# Altium footprint library Connectors.PcbLib: 77 footprints (part 2 of 5)
Each footprint in its own frame and in the unit in brackets; x right, y up, seen from the top. Pads: shape width x height; smd on the part's side, far side on the other; paste and mask are expansions set on the pad; w line width, h text height; cw(c..) or ccw(c..) is an arc to the next point about the centre after c.
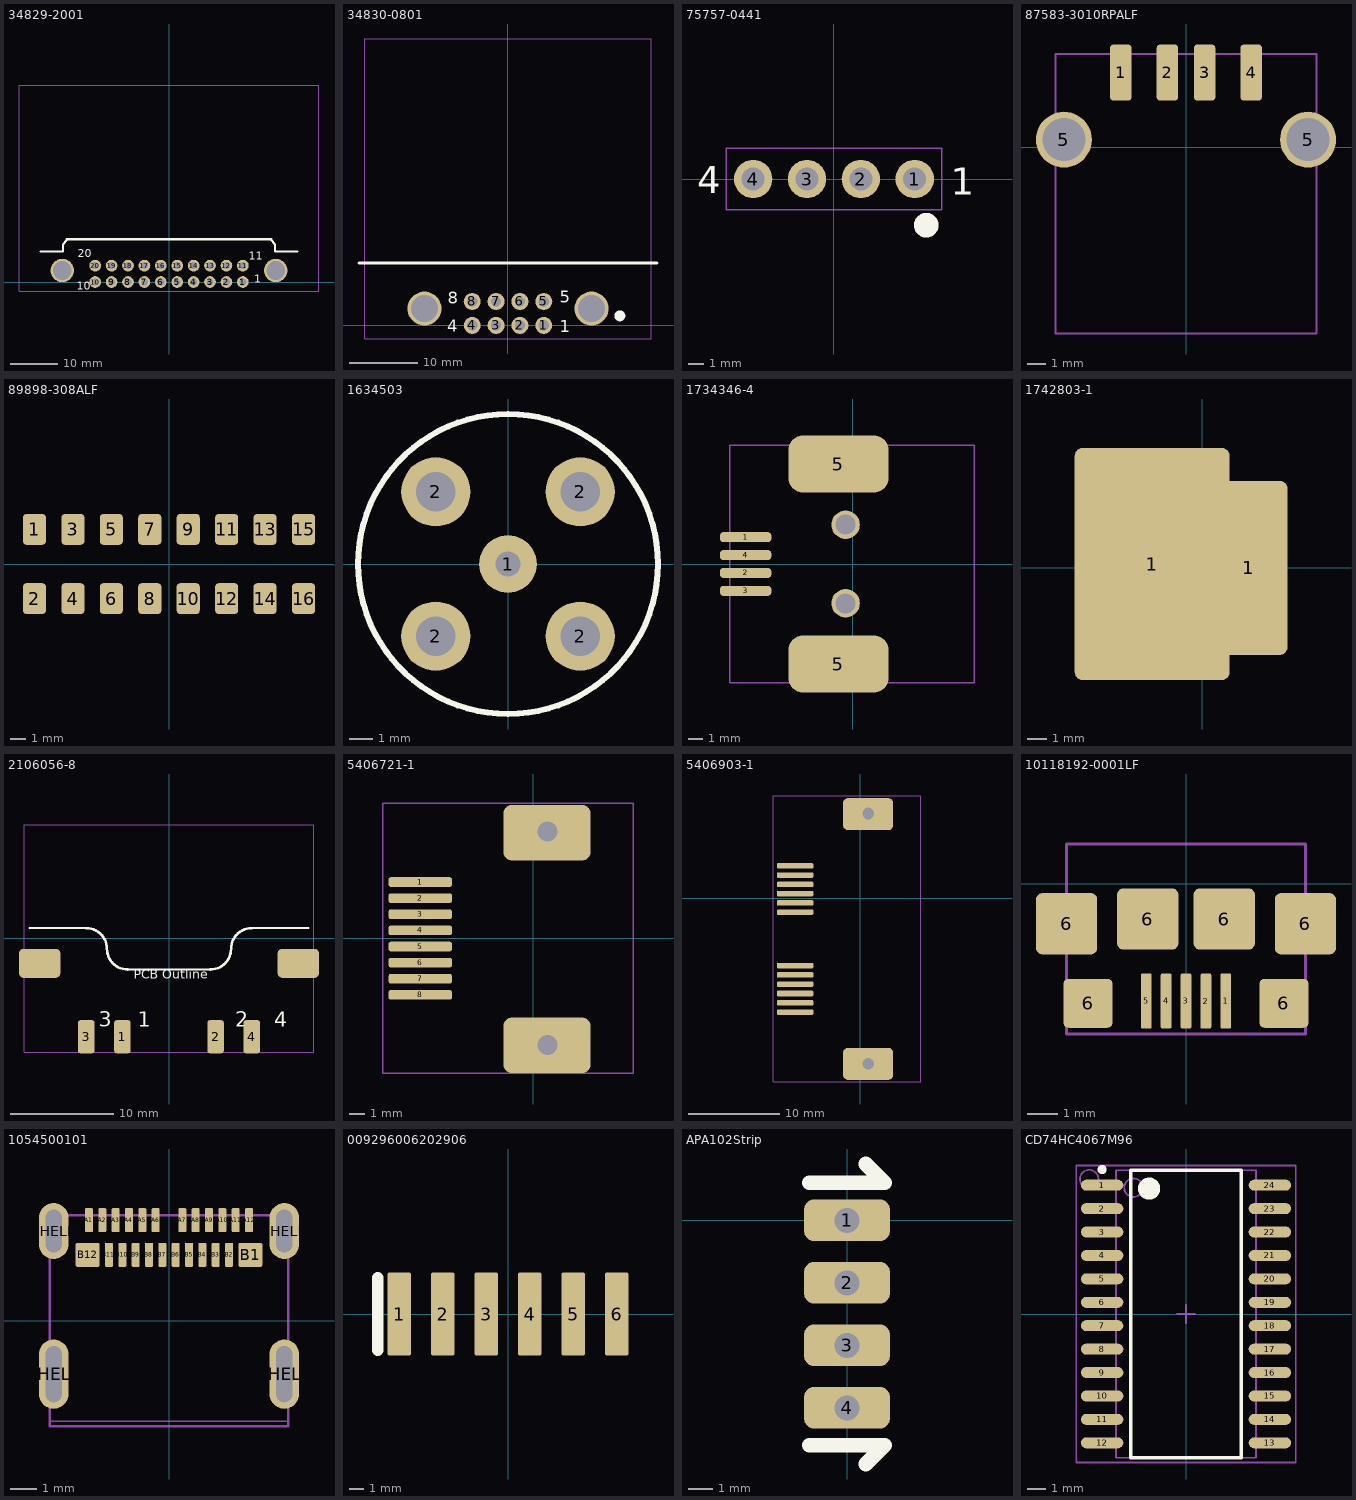
[diagram p1: the footprints below, top view; thin cyan lines are the x and y axes]

## 34829-2001 [mm] "MX150™ 2x10 Dual Row Right Angle Header, Compliant Pin, 20 Circuits, Polarization A, Black"
pads (22):
  round 2.5 hole 1.5 paste-99: 1(15.75,0) 2(12.25,0) 3(8.75,0) 4(5.25,0) 5(1.75,0) 6(-1.75,0) 7(-5.25,0) 8(-8.75,0) 9(-12.25,0) 10(-15.75,0) 11(15.75,3.5) 12(12.25,3.5) 13(8.75,3.5) 14(5.25,3.5) 15(1.75,3.5) 16(-1.75,3.5) 17(-5.25,3.5) 18(-8.75,3.5) 19(-12.25,3.5) 20(-15.75,3.5)
  round 5 hole 4 paste-99: ""(-22.75,2.46) ""(22.75,2.46)
Top Overlay:
  lines w0.5: -27.41,6.51 -22.61,6.51 -22.61,7.97 -21.8,9.14 0,9.14 21.8,9.14 22.61,7.97 22.61,6.51 27.41,6.51
  text "10" at -19.7,-2.3 h3
  text "1" at 18.2,-0.8 h3
  text "11" at 17,4.1 h3
  text "20" at -19.5,4.6 h3
Assembly:
  lines w0.1: -32,-2 -32,42 32,42 32,-2 -32,-2
  text ".Designator" at -6,6 h3
3D body "348292001.stp": height 20.64, standoff -5.85, extent -31.845,-0.6 31.845,41.96

## 34830-0801 [mm] "MX150™ 2x4 Dual Row Right Angle Header, Solder Pin, 8 Circuits, Polarization A, Black"
pads (10):
  round 2.5 hole 1.5 paste-99: 1(5.25,0) 2(1.75,0) 3(-1.75,0) 4(-5.25,0) 5(5.25,3.5) 6(1.75,3.5) 7(-1.75,3.5) 8(-5.25,3.5)
  round 5 hole 4 paste-99: ""(-12.25,2.46) ""(12.25,2.46)
Top Overlay:
  circle w1: c16.4,1.4 r0.3
  lines w0.5: -21.8,9.14 0,9.14 21.8,9.14
  text "4" at -8.9,-1.5 h3
  text "1" at 7.6,-1.6 h3
  text "5" at 7.6,2.7 h3
  text "8" at -8.8,2.6 h3
Assembly:
  lines w0.1: -21,-2 -21,42 21,42 21,-2 -21,-2
  text ".Designator" at -6,6 h3
3D body "348300801.stp": height 20.94, standoff -5.55, extent -21.336,-0.554 21.354,42.006

## 75757-0441 [mm] "MX150 Connector Header Through Hole 4 position 0.138\" (3.50mm)"
pads (4):
  round 2.5 hole 1.5 paste-99: 1(5.25,0) 2(1.75,0) 3(-1.75,0) 4(-5.25,0)
Top Overlay:
  circle w1: c6,-3 r0.3
  text "4" at -8.9,-1.5 h3
  text "1" at 7.6,-1.6 h3
Assembly:
  lines w0.1: -7,-2 -7,2 7,2 7,-2 -7,-2
  text ".Designator" at -2.4,-0.2 h1.1
3D body "757570441.stp": height 15.75, standoff -3, extent -7,-1.855 7,1.855

## 87583-3010RPALF [mm]
pads (6):
  rrect30% 1.15x3 smd paste-0.04 mask+0.092: 1(-3.5,4) 2(-1,4) 3(1,4) 4(3.5,4)
  round 3 hole 2.3: 5(-6.55,0.4) 5(6.55,0.4)
Assembly:
  lines w0.1: -7,-10 7,-10 7,5 -7,5 -7,-10
  text ".Designator" at -2.4,0.8 h1.1
3D body: height 7, standoff 0, extent -6.6,-9.9 6.6,4.5

## 89898-308ALF [mil] "16 Position Receptacle, Bottom or Top Entry Connector Surface Mount"
pads (16):
  rrect30% 60x80 smd paste-1.57 mask+3.62: 1(-350,90) 2(-350,-90) 3(-250,90) 4(-250,-90) 5(-150,90) 6(-150,-90) 7(-50,90) 8(-50,-90) 9(50,90) 10(50,-90) 11(150,90) 12(150,-90) 13(250,90) 14(250,-90) 15(350,90) 16(350,-90)
3D body "89898-308a_asm.stp": height 320.96, standoff -1.87, extent -398.46,-118.73 398.39,118.73

## 1634503 [mm] "BNC Straight -- low profile PCB Socket. PIN-IN-PASTE REFLOW configuration."
pads (5):
  round 2.5 hole 1.1 paste-99: 1(0,0)
  round 3 hole 1.7 paste-99: 2(-3.13,-3.13) 2(-3.13,3.13) 2(3.13,-3.13) 2(3.13,3.13)
Top Overlay:
  circle w0.254: c0,0 r6.5
Top Paste:
  circle w1.8: c-3.13,3.13 r0.5
  circle w1.8: c-3.13,-3.13 r0.5
  circle w1.8: c3.13,-3.13 r0.5
  circle w1.8: c3.13,3.13 r0.5
  circle w1.4: c0,0 r0.5
3D body "c-5-1634503-1-d-3d.stp": height 13.75, standoff -4.85, extent -5.5,-5.51 5.5,5.51

## 1734346-4 [mm]
pads (8):
  rrect70% 3.6x0.7 smd paste-0.04 mask+0.092: 1(-7.5,1.875) 2(-7.5,-0.625) 3(-7.5,-1.875) 4(-7.5,0.625)
  rrect50% 7x4 smd paste-0.3: 5(-1,-7) 5(-1,7)
  round 2 hole 1.4 paste-99: ""(-0.5,-2.75) ""(-0.5,2.75)
Assembly:
  lines w0.1: -8.6,-8.3 8.5,-8.3 8.5,8.3 -8.6,8.3 -8.6,-8.3
  text ".Designator" at -3.5,0 h1.1
3D body "c-1734346-4-c-3d.stp": height 11.31, standoff -1.11, extent -8.6,-8.25 8.5,8.25

## 1742803-1 [mm] "QC, laying flat"
pads (2):
  rrect10% 8x12 smd paste-0.5: 1(-2.6,0.2)
  rrect20% 4x9 smd paste-0.5: 1(2.4,0)
3D body "c-1742803-1-c-3d.stp": height 0.8, standoff 0, extent -6.276,-4.445 14.4,4.445

## 2106056-8 [mm] "SlimSeal 4-pin right angle header, SMT"
pads (6):
  rrect30% 1.6x3.2 smd paste-0.04 mask+0.092: 1(-4.5,-9.5) 2(4.5,-9.5) 3(-8,-9.5) 4(8,-9.5)
  rrect30% 4x2.8 smd paste-0.04 mask+0.092: ""(-12.5,-2.4) ""(12.5,-2.4)
Top Overlay:
  lines w0.2: -13.5,1 -8,1 ; -4,-3 4,-3 ; 8,1 13.5,1
  lines w0.254: -8,1 cw(c-8,-1) -6,-1 ccw(c-4,-1) -4,-3 ; 4,-3 ccw(c4,-1) 6,-1 cw(c8,-1) 8,1
  text "3    1             2    4" at -6.8,-9 h2.5
  text "PCB Outline" at -3.4,-4.2 h1.5
Assembly:
  lines w0.1: -14,-11 14,-11 14,11 -14,11 -14,-11
  text ".Designator" at -2.4,-6.2 h1.1
3D body "c-2106056-8-b-3d.stp": height 7.66, standoff 0.03, extent -13.79,-10.06 13.79,10.6

## 5406721-1 [mm]
pads (12):
  rrect50% 4x0.61 smd paste-0.03: 1(-7.128,3.54) 2(-7.128,2.524) 3(-7.128,1.508) 4(-7.128,0.492) 5(-7.128,-0.524) 6(-7.128,-1.54) 7(-7.128,-2.556) 8(-7.128,-3.572)
  rrect30% 5.5x3.5 smd paste-0.05: ""(0.856,-6.75) ""(0.856,6.65)
  round 2 hole 1.27 paste-99: ""(0.891,-6.72) ""(0.891,6.72)
Assembly:
  lines w0.1: -9.5,-8.5 6.3,-8.5 6.3,8.5 -9.5,8.5 -9.5,-8.5
  text ".Designator" at -2.4,-0.2 h1.1
3D body "c-5406721-1-e-3d.stp": height 12.5, standoff -1.03, extent -8.17,-8.5 6.3,8.5

## 5406903-1 [mm]
pads (16):
  rrect50% 4x0.61 smd paste-0.03: 1(-7.128,3.54) 2(-7.128,2.524) 3(-7.128,1.508) 4(-7.128,0.492) 5(-7.128,-0.524) 6(-7.128,-1.54) 7(-7.128,-7.382) 8(-7.128,-8.398) 9(-7.128,-9.414) 10(-7.128,-10.43) 11(-7.128,-11.446) 12(-7.128,-12.462)
  rrect30% 5.5x3.5 smd paste-0.05: ""(0.856,-18.13) ""(0.856,9.19)
  round 2 hole 1.27 paste-99: ""(0.891,-18.1) ""(0.891,9.26)
Assembly:
  lines w0.1: -9.5,-20.1 -9.5,11.176 6.604,11.176 6.604,-20.1 -9.5,-20.1
  text ".Designator" at -2.4,-0.2 h1.1
3D body "c-5406903-1-b-3d.stp": height 12.5, standoff -1.03, extent -8.2,-19.665 6.27,10.865

## 10118192-0001LF [mm]
pads (11):
  rrect30% 0.35x1.8 smd paste-99 mask+0.07: 1(1.3,-3.825) 2(0.65,-3.828) 3(0,-3.825) 4(-0.65,-3.825) 5(-1.3,-3.825)
  rrect20% 2x2 smd paste-99: 6(-3.9,-1.3) 6(-1.25,-1.147) 6(1.25,-1.147) 6(3.9,-1.3)
  rrect20% 1.6x1.6 smd paste-99: 6(-3.2,-3.9) 6(3.2,-3.9)
Top Paste:
  circle w0.9: c-3.9,-1.3 r0.284
  circle w0.9: c-1.25,-1.125 r0.284
  circle w0.9: c1.25,-1.125 r0.284
  circle w0.9: c3.9,-1.3 r0.284
  circle w0.7: c-3.2,-3.9 r0.284
  circle w0.7: c3.2,-3.9 r0.284
  lines w0.3: -1.3,-4.127 -1.3,-3.527 ; -0.65,-4.277 -0.65,-3.677 ; 0,-4.127 0,-3.527 ; 0.65,-4.277 0.65,-3.677 ; 1.3,-4.127 1.3,-3.527
Assembly:
  lines w0.1: -3.9,-4.9 -3.9,1.3 3.9,1.3 3.9,-4.9 -3.9,-4.9
  text ".Designator" at -2.4,-0.2 h1.1
3D body "10118192C.stp": height 2.79, standoff -0.22, extent -3.956,-4.361 3.956,1.3

## 1054500101 [mm] "CONN RCP USB3.1 TYPEC 24P SMD RA"
pads (28):
  rrect30% 0.3x0.9 smd paste-0.03 mask+0.05: A1(-3,3.77) A2(-2.5,3.77) A3(-2,3.77) A4(-1.5,3.77) A5(-1,3.77) A6(-0.5,3.77) A7(0.5,3.77) A8(1,3.77) A9(1.5,3.77) A10(2,3.77) A11(2.5,3.77) A12(3,3.77) B2(2.25,2.47) B3(1.75,2.47) B4(1.25,2.47) B5(0.75,2.47) B6(0.25,2.47) B7(-0.25,2.47) B8(-0.75,2.47) B9(-1.25,2.47) B10(-1.75,2.47) B11(-2.25,2.47)
  rrect15% 0.9x0.9 smd paste-0.03 mask+0.05: B1(3.05,2.47) B12(-3.05,2.47)
  rrect100% 1.1x2.6 hole 0.6 slot 2.1 at 90 deg paste-0.05 mask+0.1: SHELL(-4.32,-2) SHELL(4.32,-2)
  rrect100% 1.1x2.1 hole 0.6 slot 1.6 at 90 deg paste-0.05 mask+0.1: SHELL(-4.32,3.36) SHELL(4.32,3.36)
Top Paste:
  region: 5.205,-1.24 5.205,-2.765 5.205,-2.88 5.117,-3.094 4.954,-3.257 4.74,-3.345 4.625,-3.345 4.12,-3.345 4.005,-3.345 3.791,-3.257 3.628,-3.094 3.54,-2.88 3.54,-2.765 3.54,-1.24 3.54,-1.125 3.628,-0.911 3.791,-0.748 4.005,-0.66 4.12,-0.66 4.625,-0.66 4.74,-0.66 4.954,-0.748 5.117,-0.911 5.205,-1.125
  region: -5.205,-2.76 -5.205,-1.235 -5.205,-1.12 -5.117,-0.906 -4.954,-0.743 -4.74,-0.655 -4.625,-0.655 -4.12,-0.655 -4.005,-0.655 -3.791,-0.743 -3.628,-0.906 -3.54,-1.12 -3.54,-1.235 -3.54,-2.76 -3.54,-2.875 -3.628,-3.089 -3.791,-3.252 -4.005,-3.34 -4.12,-3.34 -4.625,-3.34 -4.74,-3.34 -4.954,-3.252 -5.117,-3.089 -5.205,-2.875
  region: -4.905,2.85 -4.905,2.735 -4.817,2.521 -4.654,2.358 -4.44,2.27 -4.21,2.27 -3.996,2.358 -3.833,2.521 -3.745,2.735 -3.745,2.85 -3.745,3.875 -3.745,3.99 -3.833,4.204 -3.996,4.367 -4.21,4.455 -4.44,4.455 -4.654,4.367 -4.817,4.204 -4.905,3.99 -4.905,3.875
  region: 3.735,2.85 3.735,2.735 3.823,2.521 3.986,2.358 4.2,2.27 4.43,2.27 4.644,2.358 4.807,2.521 4.895,2.735 4.895,2.85 4.895,3.875 4.895,3.99 4.807,4.204 4.644,4.367 4.43,4.455 4.2,4.455 3.986,4.367 3.823,4.204 3.735,3.99 3.735,3.875
  lines w0.1: -5.205,-2.76 ccw(c-4.625,-2.76) -4.625,-3.34 -4.12,-3.34 ccw(c-4.12,-2.76) -3.54,-2.76 -3.54,-1.235 ccw(c-4.12,-1.235) -4.12,-0.655 -4.625,-0.655 ccw(c-4.625,-1.235) -5.205,-1.235 -5.205,-2.76 ; -4.905,2.85 ccw(c-4.325,2.85) -3.745,2.85 -3.745,3.875 ccw(c-4.325,3.875) -4.905,3.875 -4.905,2.85 ; 3.54,-2.765 ccw(c4.12,-2.765) 4.12,-3.345 4.625,-3.345 ccw(c4.625,-2.765) 5.205,-2.765 5.205,-1.24 ccw(c4.625,-1.24) 4.625,-0.66 4.12,-0.66 ccw(c4.12,-1.24) 3.54,-1.24 3.54,-2.765 ; 3.735,2.85 ccw(c4.315,2.85) 4.895,2.85 4.895,3.875 ccw(c4.315,3.875) 3.735,3.875 3.735,2.85
Assembly:
  lines w0.05: -4.47,-3.77 4.47,-3.77
  lines w0.1: -4.47,-3.95 -4.47,3.95 4.47,3.95 4.47,-3.95 -4.47,-3.95
  text ".Designator" at -3.5,0 h1.1
3D body "1054500101.stp": height 3.18, standoff -0.78, extent -4.47,-3.95 4.47,3.95

## 009296006202906 [mm]
pads (6):
  rrect10% 1.6x5.7 smd paste-99: 1(-7.5,0) 2(-4.5,0) 3(-1.5,0) 4(1.5,0) 5(4.5,0) 6(7.5,0)
Top Overlay:
  lines w0.8: -9,-2.5 -9,2.5
Top Paste:
  rectangle: 6.75,-2.8 8.25,-1.1
  rectangle: 6.75,-0.85 8.25,0.85
  rectangle: 6.75,1.1 8.25,2.8
  rectangle: 3.75,-2.8 5.25,-1.1
  rectangle: 3.75,-0.85 5.25,0.85
  rectangle: 3.75,1.1 5.25,2.8
  rectangle: 0.75,-2.8 2.25,-1.1
  rectangle: 0.75,-0.85 2.25,0.85
  rectangle: 0.75,1.1 2.25,2.8
  rectangle: -2.25,-2.8 -0.75,-1.1
  rectangle: -2.25,-0.85 -0.75,0.85
  rectangle: -2.25,1.1 -0.75,2.8
  rectangle: -5.25,-2.8 -3.75,-1.1
  rectangle: -5.25,-0.85 -3.75,0.85
  rectangle: -5.25,1.1 -3.75,2.8
  rectangle: -8.25,1.1 -6.75,2.8
  rectangle: -8.25,-0.85 -6.75,0.85
  rectangle: -8.25,-2.8 -6.75,-1.1
Assembly:
  text ".Designator" at -2.4,-0.2 h1.1
3D body "AVX Interconnect-00-9296-006-202-906.STEP": height 2.5, standoff -0.03, extent -9,-3.5 9,3.5

## APA102Strip [mm]
pads (4):
  rrect50% 3.5x1.7 hole 1.016 paste-99: 1(0,0) 2(0,-2.54) 3(0,-5.08) 4(0,-7.62)
Top Overlay:
  lines w0.6: -1.524,-9.144 1.524,-9.144 0.762,-9.906 ; -1.524,1.524 1.524,1.524 0.762,2.286

## CD74HC4067M96 [mm] "SOIC, 24-Leads, Body 15.6x7.6mm (max), Pitch 1.27mm, IPC Medium Density"
height 2.65
pads (24):
  oval 2.3x0.6 smd: 1(-4.55,6.985) 2(-4.55,5.715) 3(-4.55,4.445) 4(-4.55,3.175) 5(-4.55,1.905) 6(-4.55,0.635) 7(-4.55,-0.635) 8(-4.55,-1.905) 9(-4.55,-3.175) 10(-4.55,-4.445) 11(-4.55,-5.715) 12(-4.55,-6.985) 13(4.55,-6.985) 14(4.55,-5.715) 15(4.55,-4.445) 16(4.55,-3.175) 17(4.55,-1.905) 18(4.55,-0.635) 19(4.55,0.635) 20(4.55,1.905) 21(4.55,3.175) 22(4.55,4.445) 23(4.55,5.715) 24(4.55,6.985)
Top Overlay:
  circle w0.6: c-2,6.8 r0.3
  circle w0.25: c-4.55,7.835 r0.125
  lines w0.2: -3,-7.8 3,-7.8 3,7.8 -3,7.8 -3,-7.8
Mechanical 13:
  circle w0.1: c-2.85,6.85 r0.5
  lines w0.1: -3.8,-7.8 3.8,-7.8 3.8,7.8 -3.8,7.8 -3.8,-7.8
Mechanical 15:
  lines w0.1: -0.5,0 0.5,0 ; 0,-0.5 0,0.5 ; -5.95,-8.05 5.95,-8.05 5.95,8.05 -5.95,8.05 -5.95,-8.05
Assembly:
  circle w0.1: c-5.25,7.32 r0.5
  lines w0.1: -5.95,-8.05 -5.95,8.05 5.95,8.05 5.95,-8.05 -5.95,-8.05
  text ".Designator" at 0.3,-2.1 h1.1
3D body: height 2.65, standoff 0.1, extent -3.8,-7.8 3.8,7.8